# Altium schematic symbol library TPS65131RGE.SchLib: 1 symbol
Pins are listed as number, name and electrical type; pins without a type are passive.

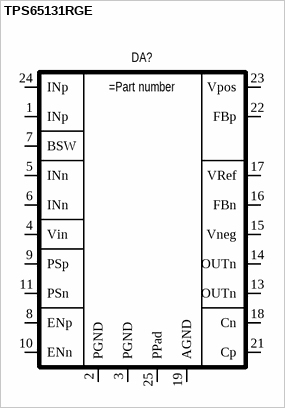
[diagram p0: symbol TPS65131RGE]

## TPS65131RGE
designator DA?
Dual, Positive and Negative Output DC-DC Converter
pins: 1 INp, 2 PGND, 3 PGND, 4 Vin, 5 INn, 6 INn, 7 BSW, 8 ENp, 9 PSp, 10 ENn, 11 PSn, 13 OUTn, 14 OUTn, 15 Vneg, 16 FBn, 17 VRef, 18 Cn, 19 AGND, 21 Cp, 22 FBp, 23 Vpos, 24 INp, 25 PPad